# EAGLE library part AL1782 (library SOP65P620X108-17T250X270N (1))
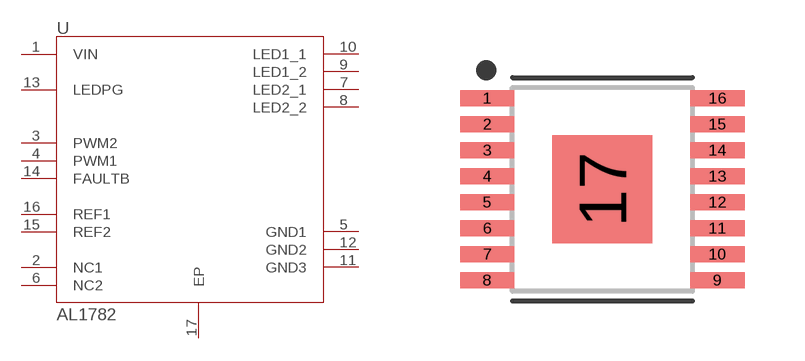
[diagram p0: symbol with the pads of SOP65P620X108-17T250X270N; footprint SOP65P620X108-17T250X270N]

Designator prefix U

## AL1782  [SOP65P620X108-17T250X270N]
1  VIN
2  NC1
3  PWM2
4  PWM1
5  GND1
6  NC2
7  LED2_1
8  LED2_2
9  LED1_2
10  LED1_1
11  GND3
12  GND2
13  LEDPG
14  FAULTB
15  REF2
16  REF1
17  EP

## Footprint SOP65P620X108-17T250X270N (pad centres in mm)
16-SOP, 0.65 mm pitch, 6.20 mm span, 5.05 X 4.40 X 1.08 mm body, 2.70 X 2.50 mm thermal pad 16-pin SOP package with 0.65 mm pitch, 6.20 mm span with body size 5.05 X 4.40 X 1.08 mm and thermal pad size 2.70 X 2.50 mm
smd 1.359 x 0.407: 1 -2.878,2.275; 2 -2.878,1.625; 3 -2.878,0.975; 4 -2.878,0.325; 5 -2.878,-0.325; 6 -2.878,-0.975; 7 -2.878,-1.625; 8 -2.878,-2.275; 9 2.878,-2.275; 10 2.878,-1.625; 11 2.878,-0.975; 12 2.878,-0.325; 13 2.878,0.325; 14 2.878,0.975; 15 2.878,1.625; 16 2.878,2.275
smd 2.5 x 2.7: 17 0,0